# Altium footprint library PCB - LEADLESS - DFN - VISHAY 4TDFN-8.PCBLIB: 1 footprints
Each footprint in its own frame and in the unit in brackets; x right, y up, seen from the top. Pads: shape width x height; smd on the part's side, far side on the other; paste and mask are expansions set on the pad; w line width, h text height; cw(c..) or ccw(c..) is an arc to the next point about the centre after c.
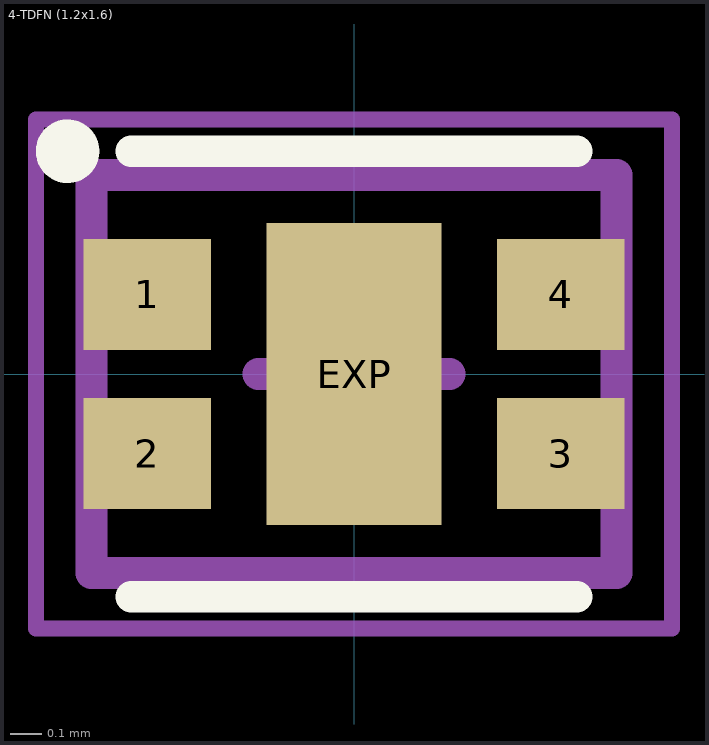
[diagram p0: the footprint, top view; thin cyan lines are the x and y axes]

## 4-TDFN (1.2x1.6) [mm] "DFN, 4-Leads, Body 1.20x1.60mm, Pitch 1.30mm, IPC Medium Density"
height 0.6
pads (5):
  rect 0.4x0.35 smd mask+0.05: 1(-0.65,0.25) 2(-0.65,-0.25) 3(0.65,-0.25) 4(0.65,0.25)
  rect 0.55x0.95 smd mask+0.05: EXP(0,0)
Top Overlay:
  circle w0.1: c-0.9,0.7 r0.05
  lines w0.1: -0.7,-0.7 0.7,-0.7 ; -0.7,0.7 0.7,0.7
Mechanical 13:
  lines w0.1: -0.825,-0.625 0.825,-0.625 0.825,0.625 -0.825,0.625 -0.825,-0.625
Mechanical 15:
  lines w0.05: -1,-0.8 1,-0.8 1,0.8 -1,0.8 -1,-0.8
  lines w0.1: -0.3,0 0.3,0 ; 0,-0.3 0,0.3
3D body "DFN130P160X60-4N.step": height 0.6, standoff 0, extent -0.825,-0.625 0.85,0.625